# Altium footprint library connector_misc.PcbLib: 64 footprints (part 1 of 4)
Each footprint in its own frame and in the unit in brackets; x right, y up, seen from the top. Pads: shape width x height; smd on the part's side, far side on the other; paste and mask are expansions set on the pad; w line width, h text height; cw(c..) or ccw(c..) is an arc to the next point about the centre after c.
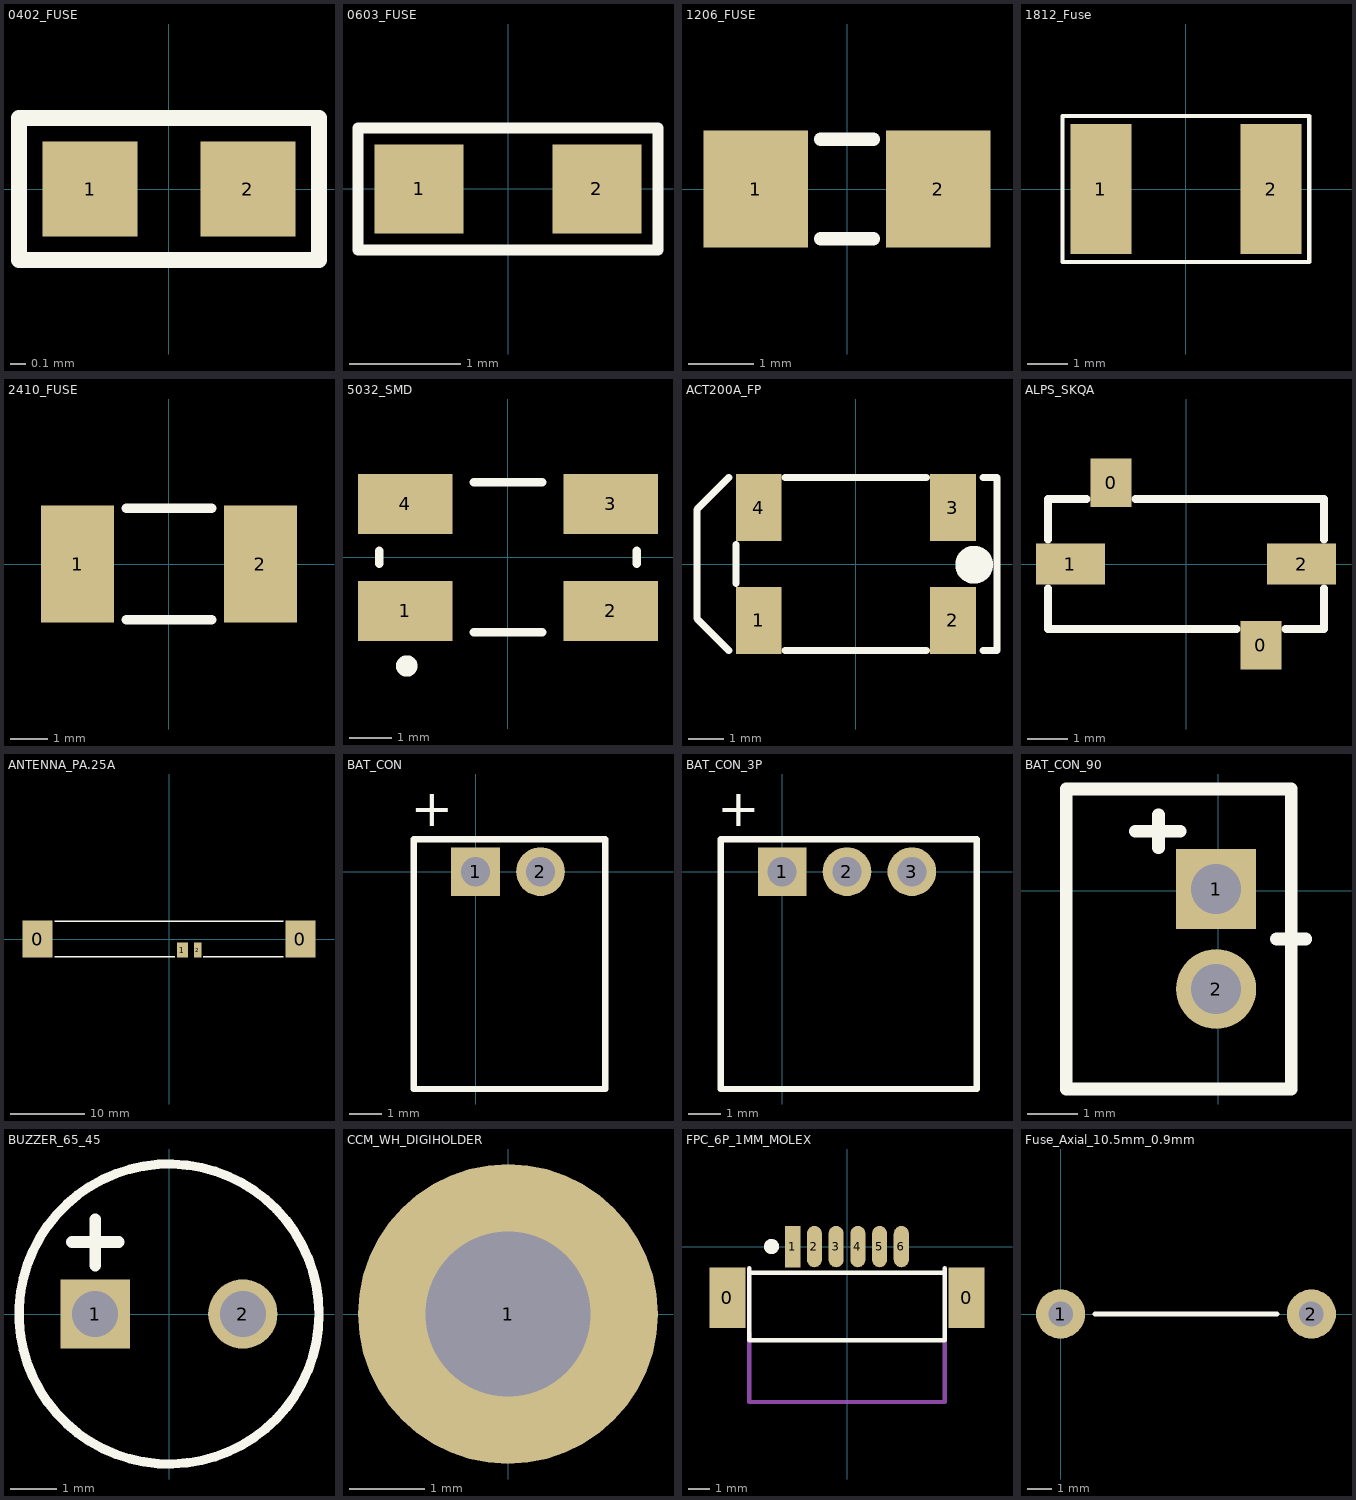
[diagram p0: the footprints below, top view; thin cyan lines are the x and y axes]

## 0402_FUSE [mm] "Fuse"
height 0.55
pads (2):
  rect 0.6x0.6 smd: 1(-0.5,0) 2(0.5,0)
Top Overlay:
  lines w0.1: -0.95,-0.45 0.95,-0.45 0.95,0.45 -0.95,0.45 -0.95,-0.45
3D body: height 0.6, standoff 0, extent -0.5,-0.25 0.5,0.25

## 0603_FUSE [mm] "Resistor"
height 0.8
pads (2):
  rect 0.8x0.8 smd: 1(-0.8,0) 2(0.8,0)
Top Overlay:
  lines w0.1: -1.35,-0.55 -1.35,0.55 1.35,0.55 1.35,-0.55 -1.35,-0.55
3D body: height 0.9, standoff 0, extent -0.8,-0.4 0.8,0.4

## 1206_FUSE [mm] "Fuse"
height 0.65
pads (2):
  rect 1.6x1.8 smd: 1(-1.4,0) 2(1.4,0)
Top Overlay:
  lines w0.203: -0.406,-0.762 0.406,-0.762 ; -0.406,0.762 0.406,0.762
3D body: height 1.13, standoff -0.33, extent -1.601,-0.826 1.601,0.826

## 1812_Fuse [mm]
pads (2):
  rect 1.5x3.2 smd: 1(-2.1,0) 2(2.1,0)
Top Overlay:
  lines w0.1: -3.05,-1.8 -3.05,-0.5 -3.05,0.5 -3.05,1.8 3.04,1.8 3.04,-1.8 -3.05,-1.8
3D body: height 1.03, standoff 0, extent -2.345,-1.72 2.39,1.76

## 2410_FUSE [mm] "SMD 2410 Fuse body: 6.9x2.69x2.69mm (LxWxH)"
height 2.69
pads (2):
  rect 1.96x3.15 smd: 1(-2.45,0) 2(2.45,0)
Top Overlay:
  lines w0.254: -1.15,-1.5 1.15,-1.5 ; -1.15,1.5 1.15,1.5
3D body: height 2.68, standoff -0.01, extent -3,-1.3 3.1,1.39

## 5032_SMD [mm] "Crystal package."
height 0.8
pads (4):
  rect 2.2x1.4 smd: 1(-2.4,-1.25) 2(2.4,-1.25) 3(2.4,1.25) 4(-2.4,1.25)
Top Overlay:
  circle w0.25: c-2.362,-2.534 r0.125
  lines w0.2: -3,-0.15 -3,0.15 ; -0.8,-1.75 0.8,-1.75 ; -0.8,1.75 0.8,1.75 ; 3,-0.15 3,0.15
3D body: height 0.9, standoff -0.05, extent -2.5,-1.6 2.5,1.6

## ACT200A_FP [mm] "Quartz case."
height 2.5
pads (4):
  rect 1.3x1.9 smd: 1(-2.75,-1.6) 2(2.75,-1.6) 3(2.75,1.6) 4(-2.75,1.6)
Top Overlay:
  circle w0.6: c3.354,-0.02 r0.236
  lines w0.2: -3.6,-2.45 -4.5,-1.55 -4.5,1.55 -3.6,2.45 ; -3.4,-0.55 -3.4,0.55 ; -2,-2.45 2,-2.45 ; -2,2.45 2,2.45 ; 3.6,-2.45 4,-2.45 4,2.45 3.6,2.45

## ALPS_SKQA [mm] "ALPS tact switch."
height 2.5
pads (4):
  rect 1x1.2 smd: 0(-1.85,2) 0(1.85,-2)
  rect 1.7x1 smd: 1(-2.85,0) 2(2.85,0)
Top Overlay:
  lines w0.2: -3.4,-0.6 -3.4,-1.6 1.25,-1.6 ; -3.4,0.6 -3.4,1.6 -2.45,1.6 ; -1.25,1.6 3.4,1.6 3.4,0.6 ; 2.45,-1.6 3.4,-1.6 3.4,-0.6

## ANTENNA_PA.25A [mm] "Gsm antenna smd. ANTENNA 6-BAND SMT"
height 5
pads (4):
  rect 4x5 smd: 0(-17.6,0) 0(17.6,0)
  rect 1.5x2 smd: 1(1.8,-1.5)
  rect 1x2 smd: 2(3.85,-1.5)
Top Overlay:
  lines w0.2: -15.3,-2.4 0.8,-2.4 ; -15.3,2.4 15.3,2.4 ; 4.6,-2.4 15.3,-2.4

## BAT_CON [mm] "S2B-PH-K-S"
pads (2):
  rect 1.5x1.5 hole 0.9: 1(0,0)
  round 1.5 hole 0.9: 2(2,0)
Top Overlay:
  lines w0.2: -1.9,-6.7 4,-6.7 4,1 -1.9,1 -1.9,-6.7
  text "+" at -2,1.4 h1.15
3D body: height 4.9, standoff -1.9, extent -1.95,-6.7 3.95,0.9

## BAT_CON_3P [mm] "S3B-PH-K-S"
height 4.8
pads (3):
  rect 1.5x1.5 hole 0.9: 1(0,0)
  round 1.5 hole 0.9: 2(2,0) 3(4,0)
Top Overlay:
  lines w0.2: -1.9,-6.7 6,-6.7 6,1 -1.9,1 -1.9,-6.7
  text "+" at -2,1.4 h1.15
3D body: height 4.9, standoff -1.9, extent -1.95,-6.7 3.95,0.9

## BAT_CON_90 [mm]
pads (2):
  rect 1.6x1.6 hole 1: 1(-0.039,0.035)
  round 1.6 hole 1: 2(-0.039,-1.965)
Top Overlay:
  lines w0.254: -1.651,1.19 -0.762,1.19 ; -1.194,0.86 -1.194,1.52 ; 1.168,-0.965 1.753,-0.965 ; 1.461,2.003 1.461,-3.965 -3.039,-3.965 -3.039,2.035 1.461,2.035
3D body: height 6, standoff -3.4, extent -2.955,-3.89 1.545,2.01

## BUZZER_65_45 [mm] "Ext drive piezzo buzzer."
height 4.5
pads (2):
  rect 1.5x1.5 hole 1: 1(-1.6,0)
  round 1.5 hole 1: 2(1.6,0)
Top Overlay:
  circle w0.203: c0,0 r3.25
  lines w0.254: -2.1,1.56 -1.09,1.56 ; -1.6,1.05 -1.6,2.05
3D body: height 3, standoff -1.8, extent -3.334,-3.353 3.24,3.234

## CCM_WH_DIGIHOLDER [mm] "CCM Whistler digital PCB holder footprint."
pads (1):
  round 4 hole 2.2: 1(0,0)

## FPC_6P_1MM_MOLEX [mm] "Molex FPC 6pin connector."
height 3
pads (8):
  rect 1.65x2.8 smd: 0(-5.5,-2.35) 0(5.5,-2.35)
  rect 0.7x1.9 smd: 1(-2.5,0)
  oval 0.7x1.9 smd: 2(-1.5,0) 3(-0.5,0) 4(0.5,0) 5(1.5,0) 6(2.5,0)
Top Overlay:
  circle w0.35: c-3.473,0 r0.171
  lines w0.2: -4.5,-1.2 4.5,-1.2 ; -4.5,-1 -4.5,-4.3 4.5,-4.3 4.5,-1
Mechanical 2:
  lines w0.2: -4.5,-4 -4.5,-7.15 4.5,-7.15 4.5,-4.3
3D body: height 3, standoff 0, extent -6.5,-9.303 6.5,-0.603

## Fuse_Axial_10.5mm_0.9mm [mm]
height 32
pads (2):
  round 2 hole 1: 1(0,0) 2(10.2,0)
Top Overlay:
  lines w0.2: 1.4,0 8.8,0
3D body: height 7.22, standoff -2.73, extent -6.64,-25.55 16.86,0.4